# Altium integrated library NSC Analog.IntLib: 134 symbols (part 1 of 4)
Pins are listed as number, name and electrical type; pins without a type are passive.

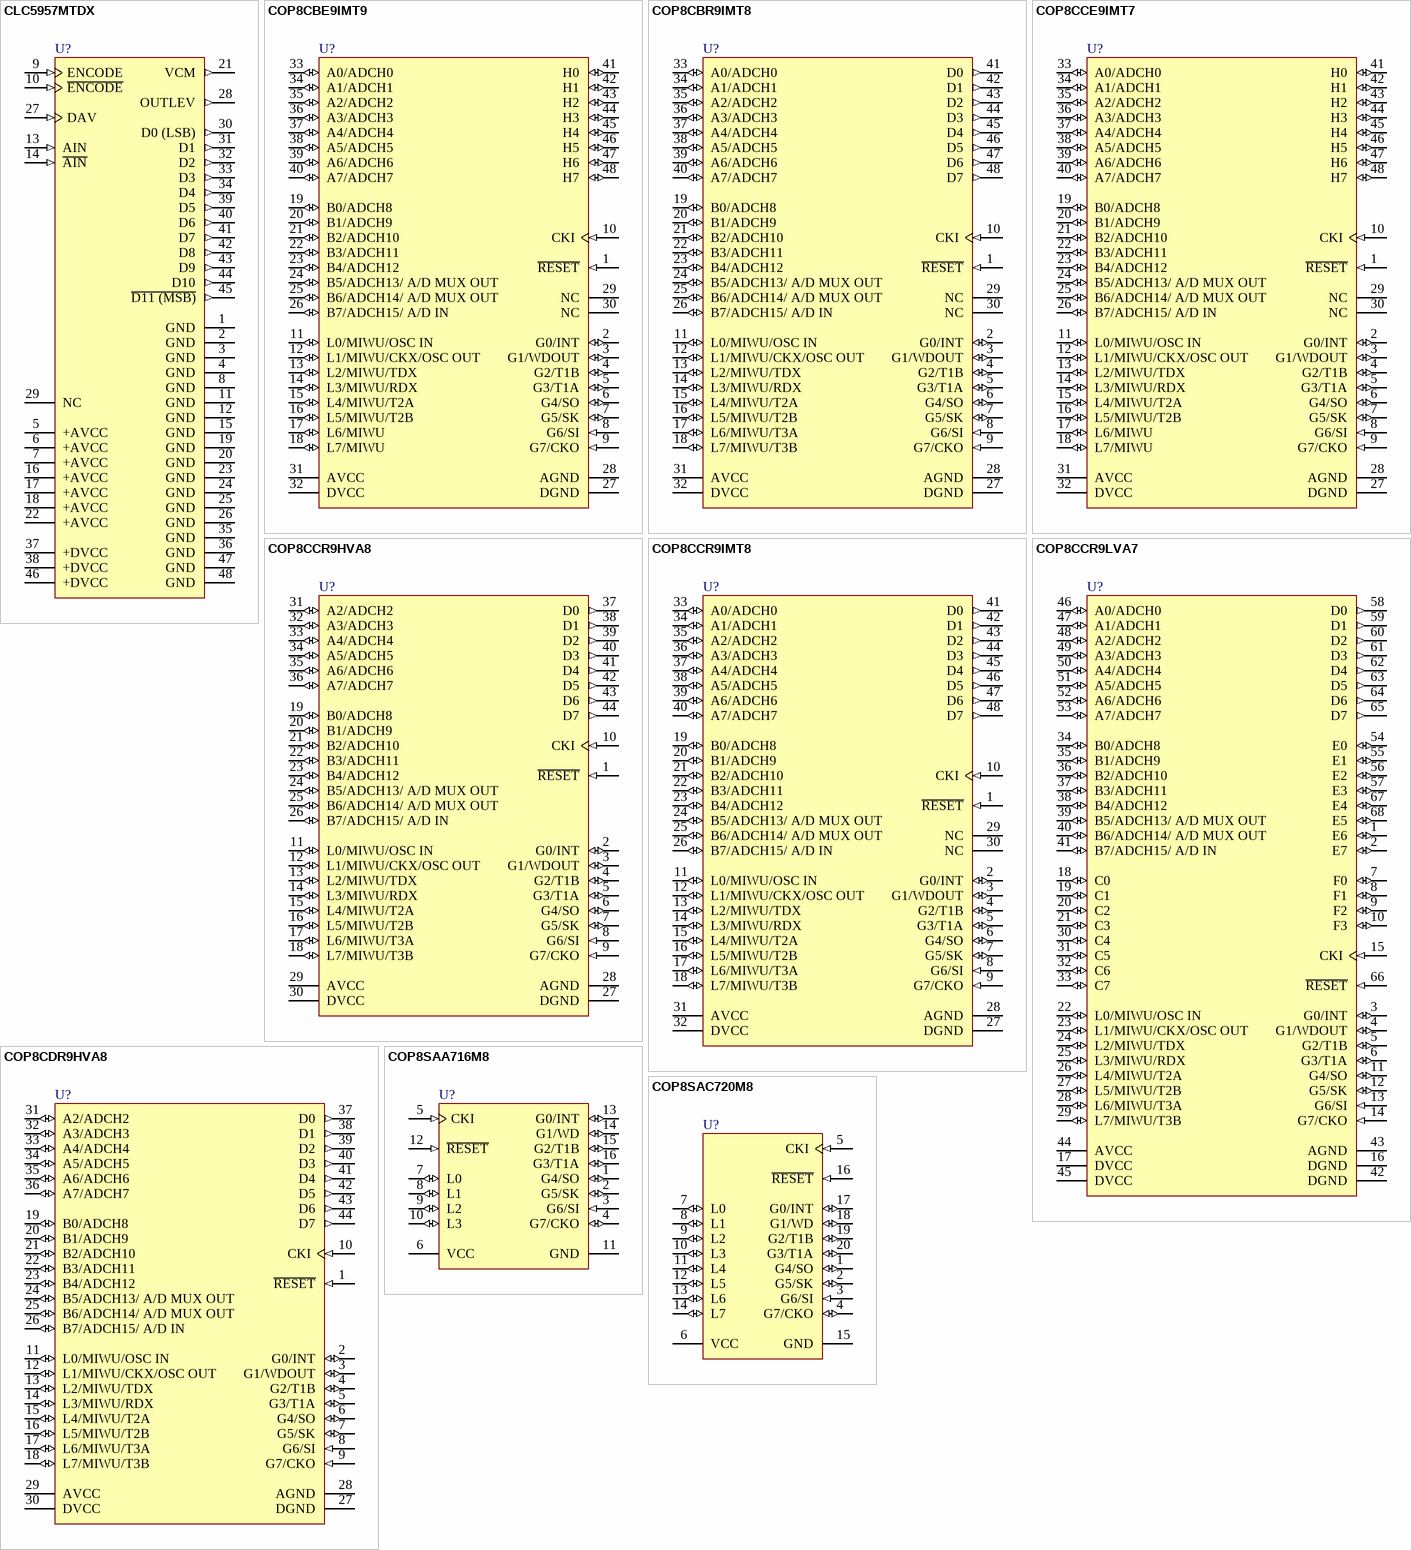
[diagram p0: symbols CLC5957MTDX to COP8SAC720M8]

## CLC5957MTDX
designator U?
12-Bit, 70 MSPS Broadband Monolithic A/D Converter; PartNumber: CLC5957MTDX; Manufacturer: National Semiconductor; CompType: Analog IC; PackageTopMarking: NSUZXYTT*CLC5957MTD; Published: 4-Dec-2008; DatasheetVersion: Apr-2002; PackageVersion: revE, Apr-2003; PackageReference: MTD48; Publisher: Altium Limited; PackageDescription: Molded TSSOP, Jedec, 12.5 x 6.1 x 0.9mm Body, 48 Lead, 0.50mm Pitch; PinCount: 48; DigiKeyPartNumber: CLC5957MTDX-ND; Code_JEDEC: MO-153-ED; ComponentLink1Description: CLC5957 Datasheet; ComponentLink1URL: http://www.national.com/ds.cgi/CL/CLC5957.pdf; ComponentLink2Description: CLC5957 Web Page; ComponentLink2URL: http://www.national.com/pf/CL/CLC5957.html; ComponentLink3Description: MTD48 package page; ComponentLink3URL: http://www.national.com/packaging/folders/mtd48.html
footprint MTD48_N (TSSOP, 48-Leads, Body 12.5x6.1mm, Pitch 0.5mm, IPC Medium Density)
footprint MTD48_L (TSSOP, 48-Leads, Body 12.5x6.1mm, Pitch 0.5mm, IPC High Density)
footprint MTD48_M (TSSOP, 48-Leads, Body 12.5x6.1mm, Pitch 0.5mm, IPC Low Density)
pins: 1 GND (power), 2 GND (power), 3 GND (power), 4 GND (power), 5 +AVCC (power), 6 +AVCC (power), 7 +AVCC (power), 8 GND (power), 9 ENCODE (in), 10 ~{ENCODE} (in), 11 GND (power), 12 GND (power), 13 AIN (in), 14 ~{AIN} (in), 15 GND (power), 16 +AVCC (power), 17 +AVCC (power), 18 +AVCC (power), 19 GND (power), 20 GND (power), 21 VCM (out), 22 +AVCC (power), 23 GND (power), 24 GND (power), 25 GND (power), 26 GND (power), 27 DAV (in), 28 OUTLEV (out), 29 NC, 30 D0 (LSB) (out), 31 D1 (out), 32 D2 (out), 33 D3 (out), 34 D4 (out), 35 GND (power), 36 GND (power), 37 +DVCC (power), 38 +DVCC (power), 39 D5 (out), 40 D6 (out), 41 D7 (out), 42 D8 (out), 43 D9 (out), 44 D10 (out), 45 ~{D11 (MSB)} (out), 46 +DVCC (power), 47 GND (power), 48 GND (power)

## COP8CBE9IMT9
designator U?
8-Bit CMOS Flash Microcontroller with 8k Memory, Virtual EEPROM, 10-Bit A/D and Brownout Reset; PartNumber: COP8CBE9IMT9; Manufacturer: National Semiconductor; CompType: Analog IC; PackageTopMarking: NS2ZXYTT*COP8CBE9IMT9; Published: 4-Dec-2008; DatasheetVersion: Jun-2004; PackageVersion: revE, Apr-2003; PackageReference: MTD48; Publisher: Altium Limited; PackageDescription: Molded TSSOP, Jedec, 12.5 x 6.1 x 0.9mm Body, 48 Lead, 0.50mm Pitch; PinCount: 48; DigiKeyPartNumber: COP8CBE9IMT9-ND; Code_JEDEC: MO-153-ED; ComponentLink1Description: COP8CBE9 Datasheet; ComponentLink1URL: http://www.national.com/ds.cgi/CO/COP8CBE9.pdf; ComponentLink2Description: COP8CBE9 Web Page; ComponentLink2URL: http://www.national.com/pf/CO/COP8CBE9.html; ComponentLink3Description: MTD48 package page; ComponentLink3URL: http://www.national.com/packaging/folders/mtd48.html
footprint MTD48_N (TSSOP, 48-Leads, Body 12.5x6.1mm, Pitch 0.5mm, IPC Medium Density)
footprint MTD48_L (TSSOP, 48-Leads, Body 12.5x6.1mm, Pitch 0.5mm, IPC High Density)
footprint MTD48_M (TSSOP, 48-Leads, Body 12.5x6.1mm, Pitch 0.5mm, IPC Low Density)
pins: 1 ~{RESET} (in), 2 G0/INT (io), 3 G1/WDOUT (io), 4 G2/T1B (io), 5 G3/T1A (io), 6 G4/SO (io), 7 G5/SK (io), 8 G6/SI (in), 9 G7/CKO (in), 10 CKI (in), 11 L0/MIWU/OSC IN (io), 12 L1/MIWU/CKX/OSC OUT (io), 13 L2/MIWU/TDX (io), 14 L3/MIWU/RDX (io), 15 L4/MIWU/T2A (io), 16 L5/MIWU/T2B (io), 17 L6/MIWU (io), 18 L7/MIWU (io), 19 B0/ADCH8 (io), 20 B1/ADCH9 (io), 21 B2/ADCH10 (io), 22 B3/ADCH11 (io), 23 B4/ADCH12 (io), 24 B5/ADCH13/ A/D MUX OUT (io), 25 B6/ADCH14/ A/D MUX OUT (io), 26 B7/ADCH15/ A/D IN (io), 27 DGND (power), 28 AGND (power), 29 NC, 30 NC, 31 AVCC (power), 32 DVCC (power), 33 A0/ADCH0 (io), 34 A1/ADCH1 (io), 35 A2/ADCH2 (io), 36 A3/ADCH3 (io), 37 A4/ADCH4 (io), 38 A5/ADCH5 (io), 39 A6/ADCH6 (io), 40 A7/ADCH7 (io), 41 H0 (io), 42 H1 (io), 43 H2 (io), 44 H3 (io), 45 H4 (io), 46 H5 (io), 47 H6 (io), 48 H7 (io)

## COP8CBR9IMT8
designator U?
8-Bit CMOS Flash Microcontroller with 32k Memory, Virtual EEPROM, 10-Bit A/D and Brownout; PartNumber: COP8CBR9IMT8; Manufacturer: National Semiconductor; CompType: Analog IC; PackageTopMarking: NS2ZXYTT*COP8CBR9IMT8; Published: 4-Dec-2008; DatasheetVersion: Aug-2003; PackageVersion: revE, Apr-2003; PackageReference: MTD48; Publisher: Altium Limited; PackageDescription: Molded TSSOP, Jedec, 12.5 x 6.1 x 0.9mm Body, 48 Lead, 0.50mm Pitch; PinCount: 48; DigiKeyPartNumber: COP8CBR9IMT8-ND; Code_JEDEC: MO-153-ED; ComponentLink1Description: COP8CBR9 Datasheet; ComponentLink1URL: http://www.national.com/ds.cgi/CO/COP8CBR9.pdf; ComponentLink2Description: COP8CBR9 Web Page; ComponentLink2URL: http://www.national.com/pf/CO/COP8CBR9.html; ComponentLink3Description: MTD48 package page; ComponentLink3URL: http://www.national.com/packaging/folders/mtd48.html
footprint MTD48_N (TSSOP, 48-Leads, Body 12.5x6.1mm, Pitch 0.5mm, IPC Medium Density)
footprint MTD48_L (TSSOP, 48-Leads, Body 12.5x6.1mm, Pitch 0.5mm, IPC High Density)
footprint MTD48_M (TSSOP, 48-Leads, Body 12.5x6.1mm, Pitch 0.5mm, IPC Low Density)
pins: 1 ~{RESET} (in), 2 G0/INT (io), 3 G1/WDOUT (io), 4 G2/T1B (io), 5 G3/T1A (io), 6 G4/SO (io), 7 G5/SK (io), 8 G6/SI (in), 9 G7/CKO (in), 10 CKI (in), 11 L0/MIWU/OSC IN (io), 12 L1/MIWU/CKX/OSC OUT (io), 13 L2/MIWU/TDX (io), 14 L3/MIWU/RDX (io), 15 L4/MIWU/T2A (io), 16 L5/MIWU/T2B (io), 17 L6/MIWU/T3A (io), 18 L7/MIWU/T3B (io), 19 B0/ADCH8 (io), 20 B1/ADCH9 (io), 21 B2/ADCH10 (io), 22 B3/ADCH11 (io), 23 B4/ADCH12 (io), 24 B5/ADCH13/ A/D MUX OUT (io), 25 B6/ADCH14/ A/D MUX OUT (io), 26 B7/ADCH15/ A/D IN (io), 27 DGND (power), 28 AGND (power), 29 NC, 30 NC, 31 AVCC (power), 32 DVCC (power), 33 A0/ADCH0 (io), 34 A1/ADCH1 (io), 35 A2/ADCH2 (io), 36 A3/ADCH3 (io), 37 A4/ADCH4 (io), 38 A5/ADCH5 (io), 39 A6/ADCH6 (io), 40 A7/ADCH7 (io), 41 D0 (out), 42 D1 (out), 43 D2 (out), 44 D3 (out), 45 D4 (out), 46 D5 (out), 47 D6 (out), 48 D7 (out)

## COP8CCE9IMT7
designator U?
8-Bit CMOS Flash Microcontroller with 8k Memory, Virtual EEPROM, 10-Bit A/D and Brownout Reset; PartNumber: COP8CCE9IMT7; Manufacturer: National Semiconductor; CompType: Analog IC; PackageTopMarking: NS2ZXYTT*COP8CCE9IMT7; Published: 4-Dec-2008; DatasheetVersion: Jun-2004; PackageVersion: revE, Apr-2003; PackageReference: MTD48; Publisher: Altium Limited; PackageDescription: Molded TSSOP, Jedec, 12.5 x 6.1 x 0.9mm Body, 48 Lead, 0.50mm Pitch; PinCount: 48; DigiKeyPartNumber: COP8CCE9IMT7-ND; Code_JEDEC: MO-153-ED; ComponentLink1Description: COP8CCE9 Datasheet; ComponentLink1URL: http://www.national.com/ds.cgi/CO/COP8CCE9.pdf; ComponentLink2Description: COP8CCE9 Web Page; ComponentLink2URL: http://www.national.com/pf/CO/COP8CCE9.html; ComponentLink3Description: MTD48 package page; ComponentLink3URL: http://www.national.com/packaging/folders/mtd48.html
footprint MTD48_N (TSSOP, 48-Leads, Body 12.5x6.1mm, Pitch 0.5mm, IPC Medium Density)
footprint MTD48_L (TSSOP, 48-Leads, Body 12.5x6.1mm, Pitch 0.5mm, IPC High Density)
footprint MTD48_M (TSSOP, 48-Leads, Body 12.5x6.1mm, Pitch 0.5mm, IPC Low Density)
pins: 1 ~{RESET} (in), 2 G0/INT (io), 3 G1/WDOUT (io), 4 G2/T1B (io), 5 G3/T1A (io), 6 G4/SO (io), 7 G5/SK (io), 8 G6/SI (in), 9 G7/CKO (in), 10 CKI (in), 11 L0/MIWU/OSC IN (io), 12 L1/MIWU/CKX/OSC OUT (io), 13 L2/MIWU/TDX (io), 14 L3/MIWU/RDX (io), 15 L4/MIWU/T2A (io), 16 L5/MIWU/T2B (io), 17 L6/MIWU (io), 18 L7/MIWU (io), 19 B0/ADCH8 (io), 20 B1/ADCH9 (io), 21 B2/ADCH10 (io), 22 B3/ADCH11 (io), 23 B4/ADCH12 (io), 24 B5/ADCH13/ A/D MUX OUT (io), 25 B6/ADCH14/ A/D MUX OUT (io), 26 B7/ADCH15/ A/D IN (io), 27 DGND (power), 28 AGND (power), 29 NC, 30 NC, 31 AVCC (power), 32 DVCC (power), 33 A0/ADCH0 (io), 34 A1/ADCH1 (io), 35 A2/ADCH2 (io), 36 A3/ADCH3 (io), 37 A4/ADCH4 (io), 38 A5/ADCH5 (io), 39 A6/ADCH6 (io), 40 A7/ADCH7 (io), 41 H0 (io), 42 H1 (io), 43 H2 (io), 44 H3 (io), 45 H4 (io), 46 H5 (io), 47 H6 (io), 48 H7 (io)

## COP8CCR9HVA8
designator U?
8-Bit CMOS Flash Microcontroller with 32k Memory, Virtual EEPROM, 10-Bit A/D and Brownout; PartNumber: COP8CCR9HVA8; Manufacturer: National Semiconductor; CompType: Analog IC; PackageTopMarking: NS2ZXYYTTE#*COP8CCR9HVA8; Published: 4-Dec-2008; DatasheetVersion: Aug-2003; PackageVersion: revK, Dec-1993; PackageReference: V44A; Publisher: Altium Limited; PackageDescription: Plastic Chip Carrier, Sq, .050in Pitch, 44 Lead; PinCount: 44; DigiKeyPartNumber: COP8CCR9HVA8-ND; Code_IPC: PLCC-44; ComponentLink1Description: COP8CCR9 Datasheet; ComponentLink1URL: http://www.national.com/ds.cgi/CO/COP8CCR9.pdf; ComponentLink2Description: COP8CCR9 Web Page; ComponentLink2URL: http://www.national.com/pf/CO/COP8CCR9.html; ComponentLink3Description: V44A package page; ComponentLink3URL: http://www.national.com/packaging/folders/v44a.html
footprint V44A_N (Leaded Chip Carrier, 44-Leads, Body 16.6x16.6mm, Pitch 1.27mm, IPC Medium Density)
footprint V44A_L (Leaded Chip Carrier, 44-Leads, Body 16.6x16.6mm, Pitch 1.27mm, IPC High Density)
footprint V44A_M (Leaded Chip Carrier, 44-Leads, Body 16.6x16.6mm, Pitch 1.27mm, IPC Low Density)
pins: 1 ~{RESET} (in), 2 G0/INT (io), 3 G1/WDOUT (io), 4 G2/T1B (io), 5 G3/T1A (io), 6 G4/SO (io), 7 G5/SK (io), 8 G6/SI (in), 9 G7/CKO (in), 10 CKI (in), 11 L0/MIWU/OSC IN (io), 12 L1/MIWU/CKX/OSC OUT (io), 13 L2/MIWU/TDX (io), 14 L3/MIWU/RDX (io), 15 L4/MIWU/T2A (io), 16 L5/MIWU/T2B (io), 17 L6/MIWU/T3A (io), 18 L7/MIWU/T3B (io), 19 B0/ADCH8 (io), 20 B1/ADCH9 (io), 21 B2/ADCH10 (io), 22 B3/ADCH11 (io), 23 B4/ADCH12 (io), 24 B5/ADCH13/ A/D MUX OUT (io), 25 B6/ADCH14/ A/D MUX OUT (io), 26 B7/ADCH15/ A/D IN (io), 27 DGND (power), 28 AGND (power), 29 AVCC (power), 30 DVCC (power), 31 A2/ADCH2 (io), 32 A3/ADCH3 (io), 33 A4/ADCH4 (io), 34 A5/ADCH5 (io), 35 A6/ADCH6 (io), 36 A7/ADCH7 (io), 37 D0 (out), 38 D1 (out), 39 D2 (out), 40 D3 (out), 41 D4 (out), 42 D5 (out), 43 D6 (out), 44 D7 (out)

## COP8CCR9IMT8
designator U?
8-Bit CMOS Flash Microcontroller with 32k Memory, Virtual EEPROM, 10-Bit A/D and Brownout; PartNumber: COP8CCR9IMT8; Manufacturer: National Semiconductor; CompType: Analog IC; PackageTopMarking: NS2ZXYTT*COP8CCR9IMT8; Published: 4-Dec-2008; DatasheetVersion: Aug-2003; PackageVersion: revE, Apr-2003; PackageReference: MTD48; Publisher: Altium Limited; PackageDescription: Molded TSSOP, Jedec, 12.5 x 6.1 x 0.9mm Body, 48 Lead, 0.50mm Pitch; PinCount: 48; DigiKeyPartNumber: COP8CCR9IMT8-ND; Code_JEDEC: MO-153-ED; ComponentLink1Description: COP8CCR9 Datasheet; ComponentLink1URL: http://www.national.com/ds.cgi/CO/COP8CCR9.pdf; ComponentLink2Description: COP8CCR9 Web Page; ComponentLink2URL: http://www.national.com/pf/CO/COP8CCR9.html; ComponentLink3Description: MTD48 package page; ComponentLink3URL: http://www.national.com/packaging/folders/mtd48.html
footprint MTD48_N (TSSOP, 48-Leads, Body 12.5x6.1mm, Pitch 0.5mm, IPC Medium Density)
footprint MTD48_L (TSSOP, 48-Leads, Body 12.5x6.1mm, Pitch 0.5mm, IPC High Density)
footprint MTD48_M (TSSOP, 48-Leads, Body 12.5x6.1mm, Pitch 0.5mm, IPC Low Density)
pins: 1 ~{RESET} (in), 2 G0/INT (io), 3 G1/WDOUT (io), 4 G2/T1B (io), 5 G3/T1A (io), 6 G4/SO (io), 7 G5/SK (io), 8 G6/SI (in), 9 G7/CKO (in), 10 CKI (in), 11 L0/MIWU/OSC IN (io), 12 L1/MIWU/CKX/OSC OUT (io), 13 L2/MIWU/TDX (io), 14 L3/MIWU/RDX (io), 15 L4/MIWU/T2A (io), 16 L5/MIWU/T2B (io), 17 L6/MIWU/T3A (io), 18 L7/MIWU/T3B (io), 19 B0/ADCH8 (io), 20 B1/ADCH9 (io), 21 B2/ADCH10 (io), 22 B3/ADCH11 (io), 23 B4/ADCH12 (io), 24 B5/ADCH13/ A/D MUX OUT (io), 25 B6/ADCH14/ A/D MUX OUT (io), 26 B7/ADCH15/ A/D IN (io), 27 DGND (power), 28 AGND (power), 29 NC, 30 NC, 31 AVCC (power), 32 DVCC (power), 33 A0/ADCH0 (io), 34 A1/ADCH1 (io), 35 A2/ADCH2 (io), 36 A3/ADCH3 (io), 37 A4/ADCH4 (io), 38 A5/ADCH5 (io), 39 A6/ADCH6 (io), 40 A7/ADCH7 (io), 41 D0 (out), 42 D1 (out), 43 D2 (out), 44 D3 (out), 45 D4 (out), 46 D5 (out), 47 D6 (out), 48 D7 (out)

## COP8CCR9LVA7
designator U?
8-Bit CMOS Flash Microcontroller with 32k Memory, Virtual EEPROM, 10-Bit A/D and Brownout; PartNumber: COP8CCR9LVA7; Manufacturer: National Semiconductor; CompType: Analog IC; PackageTopMarking: NS2ZXYYTTE#*COP8CCR9LVA7; Published: 4-Dec-2008; DatasheetVersion: Aug-2003; PackageVersion: revK, May-2007; PackageReference: V68A; Publisher: Altium Limited; PackageDescription: Plastic Chip Carrier, J-Bend, .954 x. 954 x .172in, .050in Pitch, 68 Lead; PinCount: 68; DigiKeyPartNumber: COP8CCR9LVA7-ND; Code_JEDEC: MS-018-AE; Code_IPC: PLCC-68; ComponentLink1Description: COP8CCR9 Datasheet; ComponentLink1URL: http://www.national.com/ds.cgi/CO/COP8CCR9.pdf; ComponentLink2Description: COP8CCR9 Web Page; ComponentLink2URL: http://www.national.com/pf/CO/COP8CCR9.html; ComponentLink3Description: V68A package page; ComponentLink3URL: http://www.national.com/packaging/folders/v68a.html
footprint V68A_N (Leaded Chip Carrier, 68-Leads, Body 24x24mm, Pitch 1.27mm, IPC Medium Density)
footprint V68A_L (Leaded Chip Carrier, 68-Leads, Body 24x24mm, Pitch 1.27mm, IPC High Density)
footprint V68A_M (Leaded Chip Carrier, 68-Leads, Body 24x24mm, Pitch 1.27mm, IPC Low Density)
pins: 1 E6 (io), 2 E7 (io), 3 G0/INT (io), 4 G1/WDOUT (io), 5 G2/T1B (io), 6 G3/T1A (io), 7 F0 (io), 8 F1 (io), 9 F2 (io), 10 F3 (io), 11 G4/SO (io), 12 G5/SK (io), 13 G6/SI (in), 14 G7/CKO (in), 15 CKI (in), 16 DGND (power), 17 DVCC (power), 18 C0 (io), 19 C1 (io), 20 C2 (io), 21 C3 (io), 22 L0/MIWU/OSC IN (io), 23 L1/MIWU/CKX/OSC OUT (io), 24 L2/MIWU/TDX (io), 25 L3/MIWU/RDX (io), 26 L4/MIWU/T2A (io), 27 L5/MIWU/T2B (io), 28 L6/MIWU/T3A (io), 29 L7/MIWU/T3B (io), 30 C4 (io), 31 C5 (io), 32 C6 (io), 33 C7 (io), 34 B0/ADCH8 (io), 35 B1/ADCH9 (io), 36 B2/ADCH10 (io), 37 B3/ADCH11 (io), 38 B4/ADCH12 (io), 39 B5/ADCH13/ A/D MUX OUT (io), 40 B6/ADCH14/ A/D MUX OUT (io), 41 B7/ADCH15/ A/D IN (io), 42 DGND (power), 43 AGND (power), 44 AVCC (power), 45 DVCC (power), 46 A0/ADCH0 (io), 47 A1/ADCH1 (io), 48 A2/ADCH2 (io), 49 A3/ADCH3 (io), 50 A4/ADCH4 (io), 51 A5/ADCH5 (io), 52 A6/ADCH6 (io), 53 A7/ADCH7 (io), 54 E0 (io), 55 E1 (io), 56 E2 (io), 57 E3 (io), 58 D0 (out), 59 D1 (out), 60 D2 (out), 61 D3 (out), 62 D4 (out), 63 D5 (out), 64 D6 (out), 65 D7 (out), 66 ~{RESET} (in), 67 E4 (io), 68 E5 (io)

## COP8CDR9HVA8
designator U?
8-Bit CMOS Flash Microcontroller with 32k Memory, Virtual EEPROM, 10-Bit A/D and Brownout; PartNumber: COP8CDR9HVA8; Manufacturer: National Semiconductor; CompType: Analog IC; PackageTopMarking: NS2ZXYYTTE#*COP8CDR9HVA8; Published: 4-Dec-2008; DatasheetVersion: Aug-2003; PackageVersion: revK, Dec-1993; PackageReference: V44A; Publisher: Altium Limited; PackageDescription: Plastic Chip Carrier, Sq, .050in Pitch, 44 Lead; PinCount: 44; DigiKeyPartNumber: COP8CDR9HVA8-ND; Code_IPC: PLCC-44; ComponentLink1Description: COP8CDR9 Datasheet; ComponentLink1URL: http://www.national.com/ds.cgi/CO/COP8CDR9.pdf; ComponentLink2Description: COP8CDR9 Web Page; ComponentLink2URL: http://www.national.com/pf/CO/COP8CDR9.html; ComponentLink3Description: V44A package page; ComponentLink3URL: http://www.national.com/packaging/folders/v44a.html
footprint V44A_N (Leaded Chip Carrier, 44-Leads, Body 16.6x16.6mm, Pitch 1.27mm, IPC Medium Density)
footprint V44A_L (Leaded Chip Carrier, 44-Leads, Body 16.6x16.6mm, Pitch 1.27mm, IPC High Density)
footprint V44A_M (Leaded Chip Carrier, 44-Leads, Body 16.6x16.6mm, Pitch 1.27mm, IPC Low Density)
pins: 1 ~{RESET} (in), 2 G0/INT (io), 3 G1/WDOUT (io), 4 G2/T1B (io), 5 G3/T1A (io), 6 G4/SO (io), 7 G5/SK (io), 8 G6/SI (in), 9 G7/CKO (in), 10 CKI (in), 11 L0/MIWU/OSC IN (io), 12 L1/MIWU/CKX/OSC OUT (io), 13 L2/MIWU/TDX (io), 14 L3/MIWU/RDX (io), 15 L4/MIWU/T2A (io), 16 L5/MIWU/T2B (io), 17 L6/MIWU/T3A (io), 18 L7/MIWU/T3B (io), 19 B0/ADCH8 (io), 20 B1/ADCH9 (io), 21 B2/ADCH10 (io), 22 B3/ADCH11 (io), 23 B4/ADCH12 (io), 24 B5/ADCH13/ A/D MUX OUT (io), 25 B6/ADCH14/ A/D MUX OUT (io), 26 B7/ADCH15/ A/D IN (io), 27 DGND (power), 28 AGND (power), 29 AVCC (power), 30 DVCC (power), 31 A2/ADCH2 (io), 32 A3/ADCH3 (io), 33 A4/ADCH4 (io), 34 A5/ADCH5 (io), 35 A6/ADCH6 (io), 36 A7/ADCH7 (io), 37 D0 (out), 38 D1 (out), 39 D2 (out), 40 D3 (out), 41 D4 (out), 42 D5 (out), 43 D6 (out), 44 D7 (out)

## COP8SAA716M8
designator U?
8-Bit CMOS ROM Based & One-Time Programmable (OTP) Microcontroller with 1 to 4k Memory, Power On Reset, & Very Small Packaging; PartNumber: COP8SAA716M8; Manufacturer: National Semiconductor; CompType: Analog IC; PackageTopMarking: NSUZXYTT*COP8SAA7*16M8; Published: 4-Dec-2008; DatasheetVersion: Nov-2000; PackageVersion: revF, Apr-1990; PackageReference: M16B; Publisher: Altium Limited; PackageDescription: Molded Package, S.O., .300in Wide, 16 Lead; PinCount: 16; DigiKeyPartNumber: COP8SAA716M8-ND; Code_JEDEC: MS-013-AA; Code_IPC: SOIC127P1030-16; ComponentLink1Description: COP8SAA7 Datasheet; ComponentLink1URL: http://www.national.com/ds.cgi/CO/COP8SAA7.pdf; ComponentLink2Description: COP8SAA7 Web Page; ComponentLink2URL: http://www.national.com/pf/CO/COP8SAA7.html; ComponentLink3Description: M16B package page; ComponentLink3URL: http://www.national.com/packaging/folders/m16b.html
footprint M16B_N (SOIC, 16-Leads, Body 10.3x7.5mm, Pitch 1.27mm, IPC Medium Density)
footprint M16B_L (SOIC, 16-Leads, Body 10.3x7.5mm, Pitch 1.27mm, IPC High Density)
footprint M16B_M (SOIC, 16-Leads, Body 10.3x7.5mm, Pitch 1.27mm, IPC Low Density)
pins: 1 G4/SO (io), 2 G5/SK (io), 3 G6/SI (in), 4 G7/CKO (io), 5 CKI (in), 6 VCC (power), 7 L0 (io), 8 L1 (io), 9 L2 (io), 10 L3 (io), 11 GND (power), 12 ~{RESET} (in), 13 G0/INT (io), 14 G1/WD (io), 15 G2/T1B (io), 16 G3/T1A (io)

## COP8SAC720M8
designator U?
8-Bit CMOS ROM Based & One-Time Programmable (OTP) Microcontroller with 1 to 4k Memory, Power On Reset, & Very Small Packaging; PartNumber: COP8SAC720M8; Manufacturer: National Semiconductor; CompType: Analog IC; PackageTopMarking: NSUZXYTT*COP8SAC720M8; Published: 4-Dec-2008; DatasheetVersion: Nov-2000; PackageVersion: revG, Jan-1996; PackageReference: M20B; Publisher: Altium Limited; PackageDescription: Molded Package, S0, .300in Wide, 20 Lead; PinCount: 20; DigiKeyPartNumber: COP8SAC720M8-ND; Code_JEDEC: MS-013-AC; Code_IPC: SOIC127P1030-20; ComponentLink1Description: COP8SAC7 Datasheet; ComponentLink1URL: http://www.national.com/ds.cgi/CO/COP8SAC7.pdf; ComponentLink2Description: COP8SAC7 Web Page; ComponentLink2URL: http://www.national.com/pf/CO/COP8SAC7.html; ComponentLink3Description: M20B package page; ComponentLink3URL: http://www.national.com/packaging/folders/m20b.html
footprint M20B_N (SOIC, 20-Leads, Body 12.8x7.5mm, Pitch 1.27mm, IPC Medium Density)
footprint M20B_L (SOIC, 20-Leads, Body 12.8x7.5mm, Pitch 1.27mm, IPC High Density)
footprint M20B_M (SOIC, 20-Leads, Body 12.8x7.5mm, Pitch 1.27mm, IPC Low Density)
pins: 1 G4/SO (io), 2 G5/SK (io), 3 G6/SI (in), 4 G7/CKO (io), 5 CKI (in), 6 VCC (power), 7 L0 (io), 8 L1 (io), 9 L2 (io), 10 L3 (io), 11 L4 (io), 12 L5 (io), 13 L6 (io), 14 L7 (io), 15 GND (power), 16 ~{RESET} (in), 17 G0/INT (io), 18 G1/WD (io), 19 G2/T1B (io), 20 G3/T1A (io)

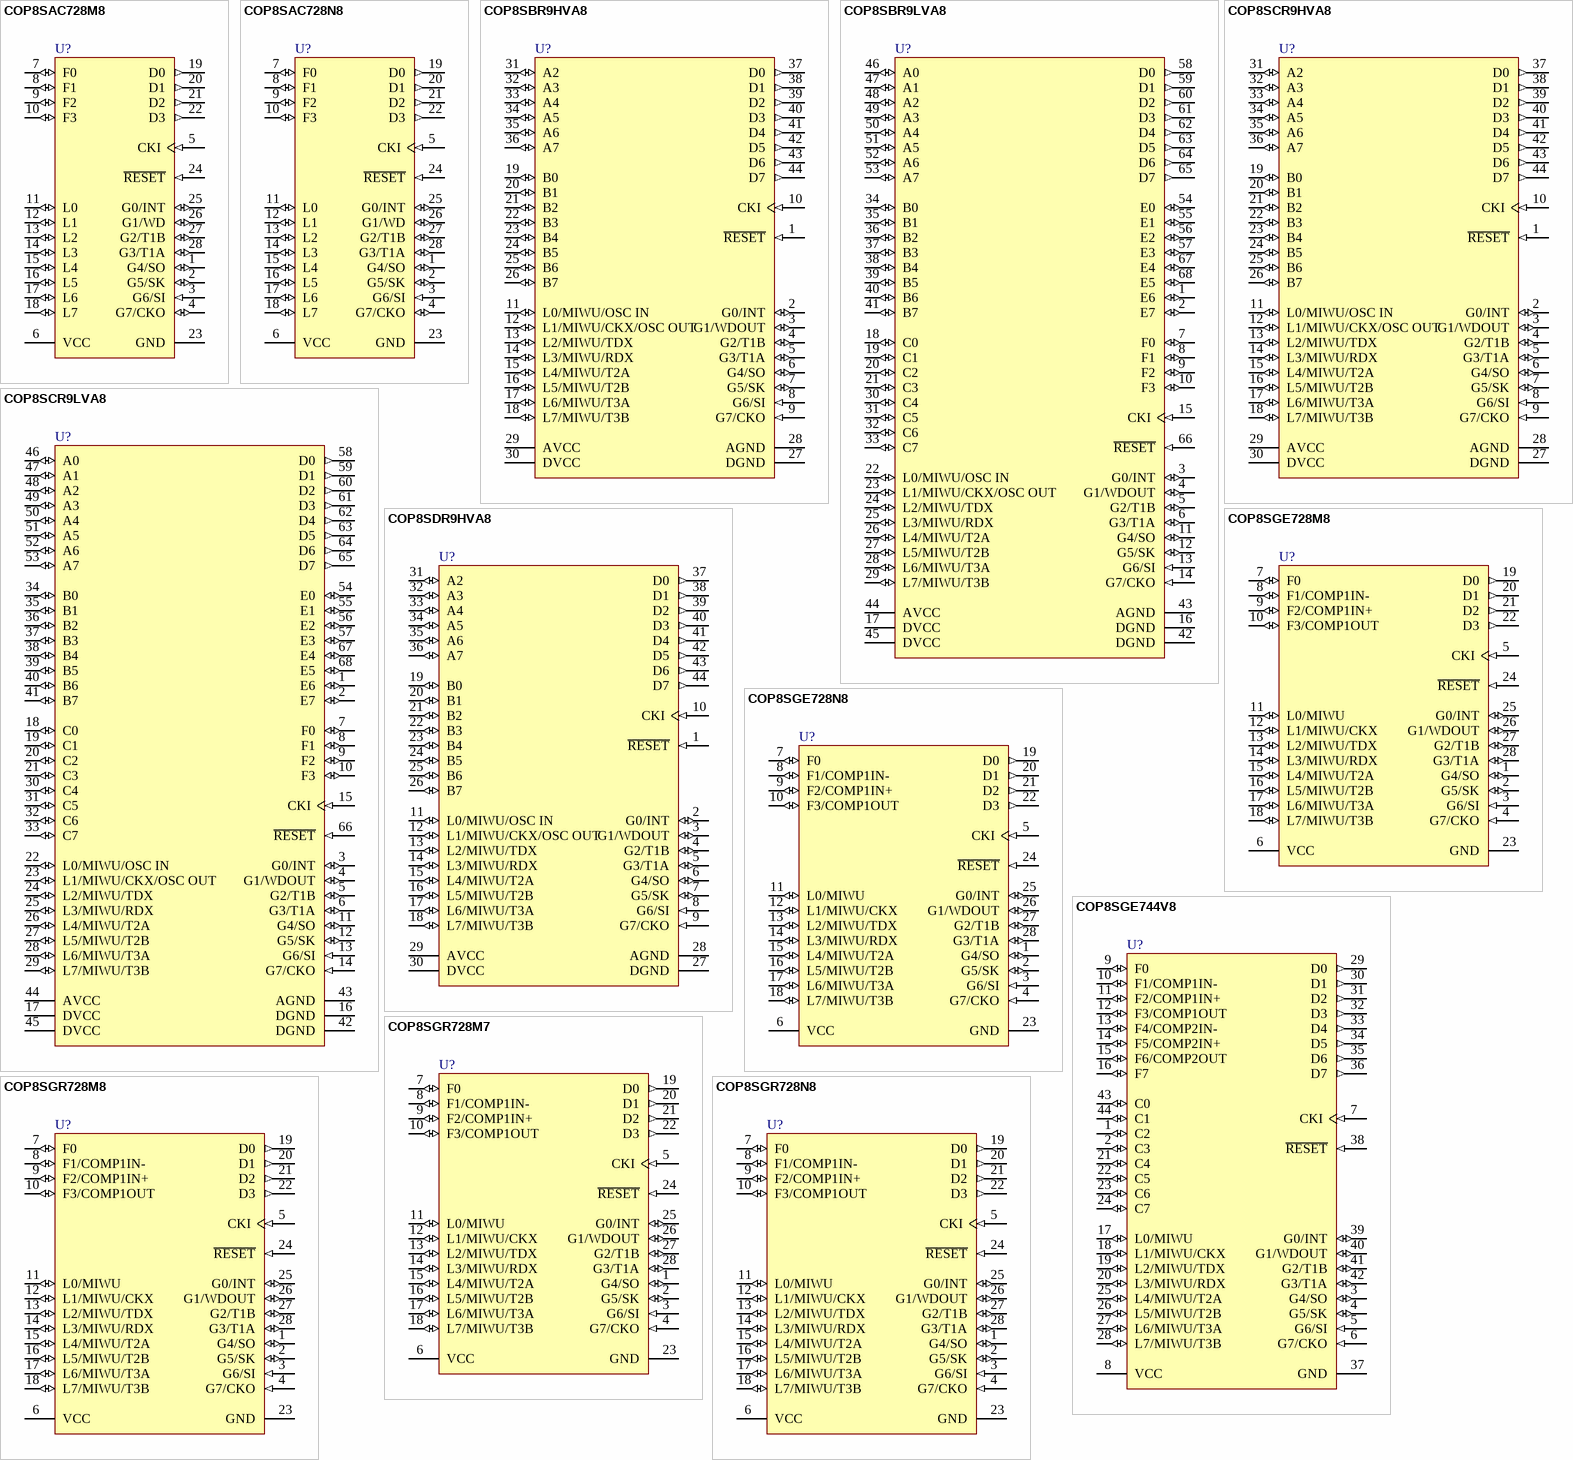
[diagram p1: symbols COP8SAC728M8 to COP8SGR728N8]

## COP8SAC728M8
designator U?
8-Bit CMOS ROM Based & One-Time Programmable (OTP) Microcontroller with 1 to 4k Memory, Power On Reset, & Very Small Packaging; PartNumber: COP8SAC728M8; Manufacturer: National Semiconductor; CompType: Analog IC; PackageTopMarking: NSUZXYTT*COP8SAC728M8; Published: 4-Dec-2008; DatasheetVersion: Nov-2000; PackageVersion: revB, Nov-1997; PackageReference: M28B; Publisher: Altium Limited; PackageDescription: Molded Package, S.O., .300in Wide, 28 Lead; PinCount: 28; DigiKeyPartNumber: COP8SAC728M8-ND; ComponentLink1Description: COP8SAC7 Datasheet; ComponentLink1URL: http://www.national.com/ds.cgi/CO/COP8SAC7.pdf; ComponentLink2Description: COP8SAC7 Web Page; ComponentLink2URL: http://www.national.com/pf/CO/COP8SAC7.html; ComponentLink3Description: M28B package page; ComponentLink3URL: http://www.national.com/packaging/folders/m28b.html
footprint M28B_N (SOIC, 28-Leads, Body 17.9x7.5mm, Pitch 1.27mm, IPC Medium Density)
footprint M28B_L (SOIC, 28-Leads, Body 17.9x7.5mm, Pitch 1.27mm, IPC High Density)
footprint M28B_M (SOIC, 28-Leads, Body 17.9x7.5mm, Pitch 1.27mm, IPC Low Density)
pins: 1 G4/SO (io), 2 G5/SK (io), 3 G6/SI (in), 4 G7/CKO (io), 5 CKI (in), 6 VCC (power), 7 F0 (io), 8 F1 (io), 9 F2 (io), 10 F3 (io), 11 L0 (io), 12 L1 (io), 13 L2 (io), 14 L3 (io), 15 L4 (io), 16 L5 (io), 17 L6 (io), 18 L7 (io), 19 D0 (out), 20 D1 (out), 21 D2 (out), 22 D3 (out), 23 GND (power), 24 ~{RESET} (in), 25 G0/INT (io), 26 G1/WD (io), 27 G2/T1B (io), 28 G3/T1A (io)

## COP8SAC728N8
designator U?
8-Bit CMOS ROM Based & One-Time Programmable (OTP) Microcontroller with 1 to 4k Memory, Power On Reset, & Very Small Packaging; PartNumber: COP8SAC728N8; Manufacturer: National Semiconductor; CompType: Analog IC; PackageTopMarking: NSUZXYYTTE#*COP8SAC728N8; Published: 4-Dec-2008; DatasheetVersion: Nov-2000; PackageVersion: revB, Aug-1993; PackageReference: NA28E; Publisher: Altium Limited; PackageDescription: Molded Dip, 28 Lead, .600 Centers, Substractor Package; PinCount: 28; DigiKeyPartNumber: COP8SAC728N8-ND; ComponentLink1Description: COP8SAC7 Datasheet; ComponentLink1URL: http://www.national.com/ds.cgi/CO/COP8SAC7.pdf; ComponentLink2Description: COP8SAC7 Web Page; ComponentLink2URL: http://www.national.com/pf/CO/COP8SAC7.html; ComponentLink3Description: NA28E package page; ComponentLink3URL: http://www.national.com/packaging/folders/na28e.html
footprint NA28E (DIP, 28-Leads, Row Spacing 15.24mm, Pitch 2.54mm, Body 36.83x13.72mm)
pins: 1 G4/SO (io), 2 G5/SK (io), 3 G6/SI (in), 4 G7/CKO (io), 5 CKI (in), 6 VCC (power), 7 F0 (io), 8 F1 (io), 9 F2 (io), 10 F3 (io), 11 L0 (io), 12 L1 (io), 13 L2 (io), 14 L3 (io), 15 L4 (io), 16 L5 (io), 17 L6 (io), 18 L7 (io), 19 D0 (out), 20 D1 (out), 21 D2 (out), 22 D3 (out), 23 GND (power), 24 ~{RESET} (in), 25 G0/INT (io), 26 G1/WD (io), 27 G2/T1B (io), 28 G3/T1A (io)

## COP8SBR9HVA8
designator U?
8-Bit CMOS Flash Based Microcontroller with 32k Memory, Virtual EEPROM and Brownout; PartNumber: COP8SBR9HVA8; Manufacturer: National Semiconductor; CompType: Analog IC; PackageTopMarking: NS2ZXYTTE#*COP8SBR9HVA8; Published: 4-Dec-2008; DatasheetVersion: Aug-2003; PackageVersion: revK, Dec-1993; PackageReference: V44A; Publisher: Altium Limited; PackageDescription: Plastic Chip Carrier, Sq, .050in Pitch, 44 Lead; PinCount: 44; DigiKeyPartNumber: COP8SBR9HVA8-ND; Code_IPC: PLCC-44; ComponentLink1Description: COP8SBR9 Datasheet; ComponentLink1URL: http://www.national.com/ds.cgi/CO/COP8SBR9.pdf; ComponentLink2Description: COP8SBR9 Web Page; ComponentLink2URL: http://www.national.com/pf/CO/COP8SBR9.html; ComponentLink3Description: V44A package page; ComponentLink3URL: http://www.national.com/packaging/folders/v44a.html
footprint V44A_N (Leaded Chip Carrier, 44-Leads, Body 16.6x16.6mm, Pitch 1.27mm, IPC Medium Density)
footprint V44A_L (Leaded Chip Carrier, 44-Leads, Body 16.6x16.6mm, Pitch 1.27mm, IPC High Density)
footprint V44A_M (Leaded Chip Carrier, 44-Leads, Body 16.6x16.6mm, Pitch 1.27mm, IPC Low Density)
pins: 1 ~{RESET} (in), 2 G0/INT (io), 3 G1/WDOUT (io), 4 G2/T1B (io), 5 G3/T1A (io), 6 G4/SO (io), 7 G5/SK (io), 8 G6/SI (in), 9 G7/CKO (in), 10 CKI (in), 11 L0/MIWU/OSC IN (io), 12 L1/MIWU/CKX/OSC OUT (io), 13 L2/MIWU/TDX (io), 14 L3/MIWU/RDX (io), 15 L4/MIWU/T2A (io), 16 L5/MIWU/T2B (io), 17 L6/MIWU/T3A (io), 18 L7/MIWU/T3B (io), 19 B0 (io), 20 B1 (io), 21 B2 (io), 22 B3 (io), 23 B4 (io), 24 B5 (io), 25 B6 (io), 26 B7 (io), 27 DGND (power), 28 AGND (power), 29 AVCC (power), 30 DVCC (power), 31 A2 (io), 32 A3 (io), 33 A4 (io), 34 A5 (io), 35 A6 (io), 36 A7 (io), 37 D0 (out), 38 D1 (out), 39 D2 (out), 40 D3 (out), 41 D4 (out), 42 D5 (out), 43 D6 (out), 44 D7 (out)

## COP8SBR9LVA8
designator U?
8-Bit CMOS Flash Based Microcontroller with 32k Memory, Virtual EEPROM and Brownout; PartNumber: COP8SBR9LVA8; Manufacturer: National Semiconductor; CompType: Analog IC; PackageTopMarking: NS2ZXYTTE#*COP8SBR9LVA8; Published: 4-Dec-2008; DatasheetVersion: Aug-2003; PackageVersion: revK, May-2007; PackageReference: V68A; Publisher: Altium Limited; PackageDescription: Plastic Chip Carrier, J-Bend, .954 x. 954 x .172in, .050in Pitch, 68 Lead; PinCount: 68; DigiKeyPartNumber: COP8SBR9LVA8-ND; Code_JEDEC: MS-018-AE; Code_IPC: PLCC-68; ComponentLink1Description: COP8SBR9 Datasheet; ComponentLink1URL: http://www.national.com/ds.cgi/CO/COP8SBR9.pdf; ComponentLink2Description: COP8SBR9 Web Page; ComponentLink2URL: http://www.national.com/pf/CO/COP8SBR9.html; ComponentLink3Description: V68A package page; ComponentLink3URL: http://www.national.com/packaging/folders/v68a.html
footprint V68A_N (Leaded Chip Carrier, 68-Leads, Body 24x24mm, Pitch 1.27mm, IPC Medium Density)
footprint V68A_L (Leaded Chip Carrier, 68-Leads, Body 24x24mm, Pitch 1.27mm, IPC High Density)
footprint V68A_M (Leaded Chip Carrier, 68-Leads, Body 24x24mm, Pitch 1.27mm, IPC Low Density)
pins: 1 E6 (io), 2 E7 (io), 3 G0/INT (io), 4 G1/WDOUT (io), 5 G2/T1B (io), 6 G3/T1A (io), 7 F0 (io), 8 F1 (io), 9 F2 (io), 10 F3 (io), 11 G4/SO (io), 12 G5/SK (io), 13 G6/SI (in), 14 G7/CKO (in), 15 CKI (in), 16 DGND (power), 17 DVCC (power), 18 C0 (io), 19 C1 (io), 20 C2 (io), 21 C3 (io), 22 L0/MIWU/OSC IN (io), 23 L1/MIWU/CKX/OSC OUT (io), 24 L2/MIWU/TDX (io), 25 L3/MIWU/RDX (io), 26 L4/MIWU/T2A (io), 27 L5/MIWU/T2B (io), 28 L6/MIWU/T3A (io), 29 L7/MIWU/T3B (io), 30 C4 (io), 31 C5 (io), 32 C6 (io), 33 C7 (io), 34 B0 (io), 35 B1 (io), 36 B2 (io), 37 B3 (io), 38 B4 (io), 39 B5 (io), 40 B6 (io), 41 B7 (io), 42 DGND (power), 43 AGND (power), 44 AVCC (power), 45 DVCC (power), 46 A0 (io), 47 A1 (io), 48 A2 (io), 49 A3 (io), 50 A4 (io), 51 A5 (io), 52 A6 (io), 53 A7 (io), 54 E0 (io), 55 E1 (io), 56 E2 (io), 57 E3 (io), 58 D0 (out), 59 D1 (out), 60 D2 (out), 61 D3 (out), 62 D4 (out), 63 D5 (out), 64 D6 (out), 65 D7 (out), 66 ~{RESET} (in), 67 E4 (io), 68 E5 (io)

## COP8SCR9HVA8
designator U?
8-Bit CMOS Flash Based Microcontroller with 32k Memory, Virtual EEPROM and Brownout; PartNumber: COP8SCR9HVA8; Manufacturer: National Semiconductor; CompType: Analog IC; PackageTopMarking: NS2ZXYTTE#*COP8SCR9HVA8; Published: 4-Dec-2008; DatasheetVersion: Aug-2003; PackageVersion: revK, Dec-1993; PackageReference: V44A; Publisher: Altium Limited; PackageDescription: Plastic Chip Carrier, Sq, .050in Pitch, 44 Lead; PinCount: 44; DigiKeyPartNumber: COP8SCR9HVA8-ND; Code_IPC: PLCC-44; ComponentLink1Description: COP8SCR9 Datasheet; ComponentLink1URL: http://www.national.com/ds.cgi/CO/COP8SCR9.pdf; ComponentLink2Description: COP8SCR9 Web Page; ComponentLink2URL: http://www.national.com/pf/CO/COP8SCR9.html; ComponentLink3Description: V44A package page; ComponentLink3URL: http://www.national.com/packaging/folders/v44a.html
footprint V44A_N (Leaded Chip Carrier, 44-Leads, Body 16.6x16.6mm, Pitch 1.27mm, IPC Medium Density)
footprint V44A_L (Leaded Chip Carrier, 44-Leads, Body 16.6x16.6mm, Pitch 1.27mm, IPC High Density)
footprint V44A_M (Leaded Chip Carrier, 44-Leads, Body 16.6x16.6mm, Pitch 1.27mm, IPC Low Density)
pins: 1 ~{RESET} (in), 2 G0/INT (io), 3 G1/WDOUT (io), 4 G2/T1B (io), 5 G3/T1A (io), 6 G4/SO (io), 7 G5/SK (io), 8 G6/SI (in), 9 G7/CKO (in), 10 CKI (in), 11 L0/MIWU/OSC IN (io), 12 L1/MIWU/CKX/OSC OUT (io), 13 L2/MIWU/TDX (io), 14 L3/MIWU/RDX (io), 15 L4/MIWU/T2A (io), 16 L5/MIWU/T2B (io), 17 L6/MIWU/T3A (io), 18 L7/MIWU/T3B (io), 19 B0 (io), 20 B1 (io), 21 B2 (io), 22 B3 (io), 23 B4 (io), 24 B5 (io), 25 B6 (io), 26 B7 (io), 27 DGND (power), 28 AGND (power), 29 AVCC (power), 30 DVCC (power), 31 A2 (io), 32 A3 (io), 33 A4 (io), 34 A5 (io), 35 A6 (io), 36 A7 (io), 37 D0 (out), 38 D1 (out), 39 D2 (out), 40 D3 (out), 41 D4 (out), 42 D5 (out), 43 D6 (out), 44 D7 (out)

## COP8SCR9LVA8
designator U?
8-Bit CMOS Flash Based Microcontroller with 32k Memory, Virtual EEPROM and Brownout; PartNumber: COP8SCR9LVA8; Manufacturer: National Semiconductor; CompType: Analog IC; PackageTopMarking: NS2ZXYTTE#*COP8SCR9LVA8; Published: 4-Dec-2008; DatasheetVersion: Aug-2003; PackageVersion: revK, May-2007; PackageReference: V68A; Publisher: Altium Limited; PackageDescription: Plastic Chip Carrier, J-Bend, .954 x. 954 x .172in, .050in Pitch, 68 Lead; PinCount: 68; DigiKeyPartNumber: COP8SCR9LVA8-ND; Code_JEDEC: MS-018-AE; Code_IPC: PLCC-68; ComponentLink1Description: COP8SCR9 Datasheet; ComponentLink1URL: http://www.national.com/ds.cgi/CO/COP8SCR9.pdf; ComponentLink2Description: COP8SCR9 Web Page; ComponentLink2URL: http://www.national.com/pf/CO/COP8SCR9.html; ComponentLink3Description: V68A package page; ComponentLink3URL: http://www.national.com/packaging/folders/v68a.html
footprint V68A_N (Leaded Chip Carrier, 68-Leads, Body 24x24mm, Pitch 1.27mm, IPC Medium Density)
footprint V68A_L (Leaded Chip Carrier, 68-Leads, Body 24x24mm, Pitch 1.27mm, IPC High Density)
footprint V68A_M (Leaded Chip Carrier, 68-Leads, Body 24x24mm, Pitch 1.27mm, IPC Low Density)
pins: 1 E6 (io), 2 E7 (io), 3 G0/INT (io), 4 G1/WDOUT (io), 5 G2/T1B (io), 6 G3/T1A (io), 7 F0 (io), 8 F1 (io), 9 F2 (io), 10 F3 (io), 11 G4/SO (io), 12 G5/SK (io), 13 G6/SI (in), 14 G7/CKO (in), 15 CKI (in), 16 DGND (power), 17 DVCC (power), 18 C0 (io), 19 C1 (io), 20 C2 (io), 21 C3 (io), 22 L0/MIWU/OSC IN (io), 23 L1/MIWU/CKX/OSC OUT (io), 24 L2/MIWU/TDX (io), 25 L3/MIWU/RDX (io), 26 L4/MIWU/T2A (io), 27 L5/MIWU/T2B (io), 28 L6/MIWU/T3A (io), 29 L7/MIWU/T3B (io), 30 C4 (io), 31 C5 (io), 32 C6 (io), 33 C7 (io), 34 B0 (io), 35 B1 (io), 36 B2 (io), 37 B3 (io), 38 B4 (io), 39 B5 (io), 40 B6 (io), 41 B7 (io), 42 DGND (power), 43 AGND (power), 44 AVCC (power), 45 DVCC (power), 46 A0 (io), 47 A1 (io), 48 A2 (io), 49 A3 (io), 50 A4 (io), 51 A5 (io), 52 A6 (io), 53 A7 (io), 54 E0 (io), 55 E1 (io), 56 E2 (io), 57 E3 (io), 58 D0 (out), 59 D1 (out), 60 D2 (out), 61 D3 (out), 62 D4 (out), 63 D5 (out), 64 D6 (out), 65 D7 (out), 66 ~{RESET} (in), 67 E4 (io), 68 E5 (io)

## COP8SDR9HVA8
designator U?
8-Bit CMOS Flash Based Microcontroller with 32k Memory, Virtual EEPROM and Brownout; PartNumber: COP8SDR9HVA8; Manufacturer: National Semiconductor; CompType: Analog IC; PackageTopMarking: NS2ZXYTTE#*COP8SDR9HVA8; Published: 4-Dec-2008; DatasheetVersion: Aug-2003; PackageVersion: revK, Dec-1993; PackageReference: V44A; Publisher: Altium Limited; PackageDescription: Plastic Chip Carrier, Sq, .050in Pitch, 44 Lead; PinCount: 44; DigiKeyPartNumber: COP8SDR9HVA8-ND; Code_IPC: PLCC-44; ComponentLink1Description: COP8SDR9 Datasheet; ComponentLink1URL: http://www.national.com/ds.cgi/CO/COP8SDR9.pdf; ComponentLink2Description: COP8SDR9 Web Page; ComponentLink2URL: http://www.national.com/pf/CO/COP8SDR9.html; ComponentLink3Description: V44A package page; ComponentLink3URL: http://www.national.com/packaging/folders/v44a.html
footprint V44A_N (Leaded Chip Carrier, 44-Leads, Body 16.6x16.6mm, Pitch 1.27mm, IPC Medium Density)
footprint V44A_L (Leaded Chip Carrier, 44-Leads, Body 16.6x16.6mm, Pitch 1.27mm, IPC High Density)
footprint V44A_M (Leaded Chip Carrier, 44-Leads, Body 16.6x16.6mm, Pitch 1.27mm, IPC Low Density)
pins: 1 ~{RESET} (in), 2 G0/INT (io), 3 G1/WDOUT (io), 4 G2/T1B (io), 5 G3/T1A (io), 6 G4/SO (io), 7 G5/SK (io), 8 G6/SI (in), 9 G7/CKO (in), 10 CKI (in), 11 L0/MIWU/OSC IN (io), 12 L1/MIWU/CKX/OSC OUT (io), 13 L2/MIWU/TDX (io), 14 L3/MIWU/RDX (io), 15 L4/MIWU/T2A (io), 16 L5/MIWU/T2B (io), 17 L6/MIWU/T3A (io), 18 L7/MIWU/T3B (io), 19 B0 (io), 20 B1 (io), 21 B2 (io), 22 B3 (io), 23 B4 (io), 24 B5 (io), 25 B6 (io), 26 B7 (io), 27 DGND (power), 28 AGND (power), 29 AVCC (power), 30 DVCC (power), 31 A2 (io), 32 A3 (io), 33 A4 (io), 34 A5 (io), 35 A6 (io), 36 A7 (io), 37 D0 (out), 38 D1 (out), 39 D2 (out), 40 D3 (out), 41 D4 (out), 42 D5 (out), 43 D6 (out), 44 D7 (out)

## COP8SGE728M8
designator U?
8-Bit CMOS ROM Based and OTP Microcontrollers with 8k to 32k Memory, Two Comparators and USART; PartNumber: COP8SGE728M8; Manufacturer: National Semiconductor; CompType: Analog IC; PackageTopMarking: NSUZXYTT*COP8SGE7*28M8; Published: 4-Dec-2008; DatasheetVersion: Oct-2001; PackageVersion: revB, Nov-1997; PackageReference: M28B; Publisher: Altium Limited; PackageDescription: Molded Package, S.O., .300in Wide, 28 Lead; PinCount: 28; DigiKeyPartNumber: COP8SGE728M8-ND; ComponentLink1Description: COP8SGE7 Datasheet; ComponentLink1URL: http://www.national.com/ds.cgi/CO/COP8SGE7.pdf; ComponentLink2Description: COP8SGE7 Web Page; ComponentLink2URL: http://www.national.com/pf/CO/COP8SGE7.html; ComponentLink3Description: M28B package page; ComponentLink3URL: http://www.national.com/packaging/folders/m28b.html
footprint M28B_N (SOIC, 28-Leads, Body 17.9x7.5mm, Pitch 1.27mm, IPC Medium Density)
footprint M28B_L (SOIC, 28-Leads, Body 17.9x7.5mm, Pitch 1.27mm, IPC High Density)
footprint M28B_M (SOIC, 28-Leads, Body 17.9x7.5mm, Pitch 1.27mm, IPC Low Density)
pins: 1 G4/SO (io), 2 G5/SK (io), 3 G6/SI (in), 4 G7/CKO (in), 5 CKI (in), 6 VCC (power), 7 F0 (io), 8 F1/COMP1IN- (io), 9 F2/COMP1IN+ (io), 10 F3/COMP1OUT (io), 11 L0/MIWU (io), 12 L1/MIWU/CKX (io), 13 L2/MIWU/TDX (io), 14 L3/MIWU/RDX (io), 15 L4/MIWU/T2A (io), 16 L5/MIWU/T2B (io), 17 L6/MIWU/T3A (io), 18 L7/MIWU/T3B (io), 19 D0 (out), 20 D1 (out), 21 D2 (out), 22 D3 (out), 23 GND (power), 24 ~{RESET} (in), 25 G0/INT (io), 26 G1/WDOUT (io), 27 G2/T1B (io), 28 G3/T1A (io)

## COP8SGE728N8
designator U?
8-Bit CMOS ROM Based and OTP Microcontrollers with 8k to 32k Memory, Two Comparators and USART; PartNumber: COP8SGE728N8; Manufacturer: National Semiconductor; CompType: Analog IC; PackageTopMarking: NSUZXYYTTE#*COP8SGE728N8; Published: 4-Dec-2008; DatasheetVersion: Oct-2001; PackageVersion: revB, Aug-1993; PackageReference: NA28E; Publisher: Altium Limited; PackageDescription: Molded Dip, 28 Lead, .600 Centers, Substractor Package; PinCount: 28; DigiKeyPartNumber: COP8SGE728N8-ND; ComponentLink1Description: COP8SGE7 Datasheet; ComponentLink1URL: http://www.national.com/ds.cgi/CO/COP8SGE7.pdf; ComponentLink2Description: COP8SGE7 Web Page; ComponentLink2URL: http://www.national.com/pf/CO/COP8SGE7.html; ComponentLink3Description: NA28E package page; ComponentLink3URL: http://www.national.com/packaging/folders/na28e.html
footprint NA28E (DIP, 28-Leads, Row Spacing 15.24mm, Pitch 2.54mm, Body 36.83x13.72mm)
pins: 1 G4/SO (io), 2 G5/SK (io), 3 G6/SI (in), 4 G7/CKO (in), 5 CKI (in), 6 VCC (power), 7 F0 (io), 8 F1/COMP1IN- (io), 9 F2/COMP1IN+ (io), 10 F3/COMP1OUT (io), 11 L0/MIWU (io), 12 L1/MIWU/CKX (io), 13 L2/MIWU/TDX (io), 14 L3/MIWU/RDX (io), 15 L4/MIWU/T2A (io), 16 L5/MIWU/T2B (io), 17 L6/MIWU/T3A (io), 18 L7/MIWU/T3B (io), 19 D0 (out), 20 D1 (out), 21 D2 (out), 22 D3 (out), 23 GND (power), 24 ~{RESET} (in), 25 G0/INT (io), 26 G1/WDOUT (io), 27 G2/T1B (io), 28 G3/T1A (io)

## COP8SGE744V8
designator U?
8-Bit CMOS ROM Based and OTP Microcontrollers with 8k to 32k Memory, Two Comparators and USART; PartNumber: COP8SGE744V8; Manufacturer: National Semiconductor; CompType: Analog IC; PackageTopMarking: NSUZXYYTTE#*COP8SGE744V8; Published: 4-Dec-2008; DatasheetVersion: Oct-2001; PackageVersion: revK, Dec-1993; PackageReference: V44A; Publisher: Altium Limited; PackageDescription: Plastic Chip Carrier, Sq, .050in Pitch, 44 Lead; PinCount: 44; DigiKeyPartNumber: COP8SGE744V8-ND; Code_IPC: PLCC-44; ComponentLink1Description: COP8SGE7 Datasheet; ComponentLink1URL: http://www.national.com/ds.cgi/CO/COP8SGE7.pdf; ComponentLink2Description: COP8SGE7 Web Page; ComponentLink2URL: http://www.national.com/pf/CO/COP8SGE7.html; ComponentLink3Description: V44A package page; ComponentLink3URL: http://www.national.com/packaging/folders/v44a.html
footprint V44A_N (Leaded Chip Carrier, 44-Leads, Body 16.6x16.6mm, Pitch 1.27mm, IPC Medium Density)
footprint V44A_L (Leaded Chip Carrier, 44-Leads, Body 16.6x16.6mm, Pitch 1.27mm, IPC High Density)
footprint V44A_M (Leaded Chip Carrier, 44-Leads, Body 16.6x16.6mm, Pitch 1.27mm, IPC Low Density)
pins: 1 C2 (io), 2 C3 (io), 3 G4/SO (io), 4 G5/SK (io), 5 G6/SI (in), 6 G7/CKO (in), 7 CKI (in), 8 VCC (power), 9 F0 (io), 10 F1/COMP1IN- (io), 11 F2/COMP1IN+ (io), 12 F3/COMP1OUT (io), 13 F4/COMP2IN- (io), 14 F5/COMP2IN+ (io), 15 F6/COMP2OUT (io), 16 F7 (io), 17 L0/MIWU (io), 18 L1/MIWU/CKX (io), 19 L2/MIWU/TDX (io), 20 L3/MIWU/RDX (io), 21 C4 (io), 22 C5 (io), 23 C6 (io), 24 C7 (io), 25 L4/MIWU/T2A (io), 26 L5/MIWU/T2B (io), 27 L6/MIWU/T3A (io), 28 L7/MIWU/T3B (io), 29 D0 (out), 30 D1 (out), 31 D2 (out), 32 D3 (out), 33 D4 (out), 34 D5 (out), 35 D6 (out), 36 D7 (out), 37 GND (power), 38 ~{RESET} (in), 39 G0/INT (io), 40 G1/WDOUT (io), 41 G2/T1B (io), 42 G3/T1A (io), 43 C0 (io), 44 C1 (io)

## COP8SGR728M7
designator U?
8-Bit CMOS ROM Based and OTP Microcontrollers with 8k to 32k Memory, Two Comparators and USART; PartNumber: COP8SGR728M7; Manufacturer: National Semiconductor; CompType: Analog IC; PackageTopMarking: NSUZXYTT*COP8SGR728M7; Published: 4-Dec-2008; DatasheetVersion: Oct-2001; PackageVersion: revB, Nov-1997; PackageReference: M28B; Publisher: Altium Limited; PackageDescription: Molded Package, S.O., .300in Wide, 28 Lead; PinCount: 28; DigiKeyPartNumber: COP8SGR728M7-ND; ComponentLink1Description: COP8SGR7 Datasheet; ComponentLink1URL: http://www.national.com/ds.cgi/CO/COP8SGR7.pdf; ComponentLink2Description: COP8SGR7 Web Page; ComponentLink2URL: http://www.national.com/pf/CO/COP8SGR7.html; ComponentLink3Description: M28B package page; ComponentLink3URL: http://www.national.com/packaging/folders/m28b.html
footprint M28B_N (SOIC, 28-Leads, Body 17.9x7.5mm, Pitch 1.27mm, IPC Medium Density)
footprint M28B_L (SOIC, 28-Leads, Body 17.9x7.5mm, Pitch 1.27mm, IPC High Density)
footprint M28B_M (SOIC, 28-Leads, Body 17.9x7.5mm, Pitch 1.27mm, IPC Low Density)
pins: 1 G4/SO (io), 2 G5/SK (io), 3 G6/SI (in), 4 G7/CKO (in), 5 CKI (in), 6 VCC (power), 7 F0 (io), 8 F1/COMP1IN- (io), 9 F2/COMP1IN+ (io), 10 F3/COMP1OUT (io), 11 L0/MIWU (io), 12 L1/MIWU/CKX (io), 13 L2/MIWU/TDX (io), 14 L3/MIWU/RDX (io), 15 L4/MIWU/T2A (io), 16 L5/MIWU/T2B (io), 17 L6/MIWU/T3A (io), 18 L7/MIWU/T3B (io), 19 D0 (out), 20 D1 (out), 21 D2 (out), 22 D3 (out), 23 GND (power), 24 ~{RESET} (in), 25 G0/INT (io), 26 G1/WDOUT (io), 27 G2/T1B (io), 28 G3/T1A (io)

## COP8SGR728M8
designator U?
8-Bit CMOS ROM Based and OTP Microcontrollers with 8k to 32k Memory, Two Comparators and USART; PartNumber: COP8SGR728M8; Manufacturer: National Semiconductor; CompType: Analog IC; PackageTopMarking: NSUZXYTT*COP8SGR728M8; Published: 4-Dec-2008; DatasheetVersion: Oct-2001; PackageVersion: revB, Nov-1997; PackageReference: M28B; Publisher: Altium Limited; PackageDescription: Molded Package, S.O., .300in Wide, 28 Lead; PinCount: 28; DigiKeyPartNumber: COP8SGR728M8-ND; ComponentLink1Description: COP8SGR7 Datasheet; ComponentLink1URL: http://www.national.com/ds.cgi/CO/COP8SGR7.pdf; ComponentLink2Description: COP8SGR7 Web Page; ComponentLink2URL: http://www.national.com/pf/CO/COP8SGR7.html; ComponentLink3Description: M28B package page; ComponentLink3URL: http://www.national.com/packaging/folders/m28b.html
footprint M28B_N (SOIC, 28-Leads, Body 17.9x7.5mm, Pitch 1.27mm, IPC Medium Density)
footprint M28B_L (SOIC, 28-Leads, Body 17.9x7.5mm, Pitch 1.27mm, IPC High Density)
footprint M28B_M (SOIC, 28-Leads, Body 17.9x7.5mm, Pitch 1.27mm, IPC Low Density)
pins: 1 G4/SO (io), 2 G5/SK (io), 3 G6/SI (in), 4 G7/CKO (in), 5 CKI (in), 6 VCC (power), 7 F0 (io), 8 F1/COMP1IN- (io), 9 F2/COMP1IN+ (io), 10 F3/COMP1OUT (io), 11 L0/MIWU (io), 12 L1/MIWU/CKX (io), 13 L2/MIWU/TDX (io), 14 L3/MIWU/RDX (io), 15 L4/MIWU/T2A (io), 16 L5/MIWU/T2B (io), 17 L6/MIWU/T3A (io), 18 L7/MIWU/T3B (io), 19 D0 (out), 20 D1 (out), 21 D2 (out), 22 D3 (out), 23 GND (power), 24 ~{RESET} (in), 25 G0/INT (io), 26 G1/WDOUT (io), 27 G2/T1B (io), 28 G3/T1A (io)

## COP8SGR728N8
designator U?
8-Bit CMOS ROM Based and OTP Microcontrollers with 8k to 32k Memory, Two Comparators and USART; PartNumber: COP8SGR728N8; Manufacturer: National Semiconductor; CompType: Analog IC; PackageTopMarking: NSUZXYYTTE#*COP8SGR728N8; Published: 4-Dec-2008; DatasheetVersion: Oct-2001; PackageVersion: revB, Aug-1993; PackageReference: NA28E; Publisher: Altium Limited; PackageDescription: Molded Dip, 28 Lead, .600 Centers, Substractor Package; PinCount: 28; DigiKeyPartNumber: COP8SGR728N8-ND; ComponentLink1Description: COP8SGR7 Datasheet; ComponentLink1URL: http://www.national.com/ds.cgi/CO/COP8SGR7.pdf; ComponentLink2Description: COP8SGR7 Web Page; ComponentLink2URL: http://www.national.com/pf/CO/COP8SGR7.html; ComponentLink3Description: NA28E package page; ComponentLink3URL: http://www.national.com/packaging/folders/na28e.html
footprint NA28E (DIP, 28-Leads, Row Spacing 15.24mm, Pitch 2.54mm, Body 36.83x13.72mm)
pins: 1 G4/SO (io), 2 G5/SK (io), 3 G6/SI (in), 4 G7/CKO (in), 5 CKI (in), 6 VCC (power), 7 F0 (io), 8 F1/COMP1IN- (io), 9 F2/COMP1IN+ (io), 10 F3/COMP1OUT (io), 11 L0/MIWU (io), 12 L1/MIWU/CKX (io), 13 L2/MIWU/TDX (io), 14 L3/MIWU/RDX (io), 15 L4/MIWU/T2A (io), 16 L5/MIWU/T2B (io), 17 L6/MIWU/T3A (io), 18 L7/MIWU/T3B (io), 19 D0 (out), 20 D1 (out), 21 D2 (out), 22 D3 (out), 23 GND (power), 24 ~{RESET} (in), 25 G0/INT (io), 26 G1/WDOUT (io), 27 G2/T1B (io), 28 G3/T1A (io)

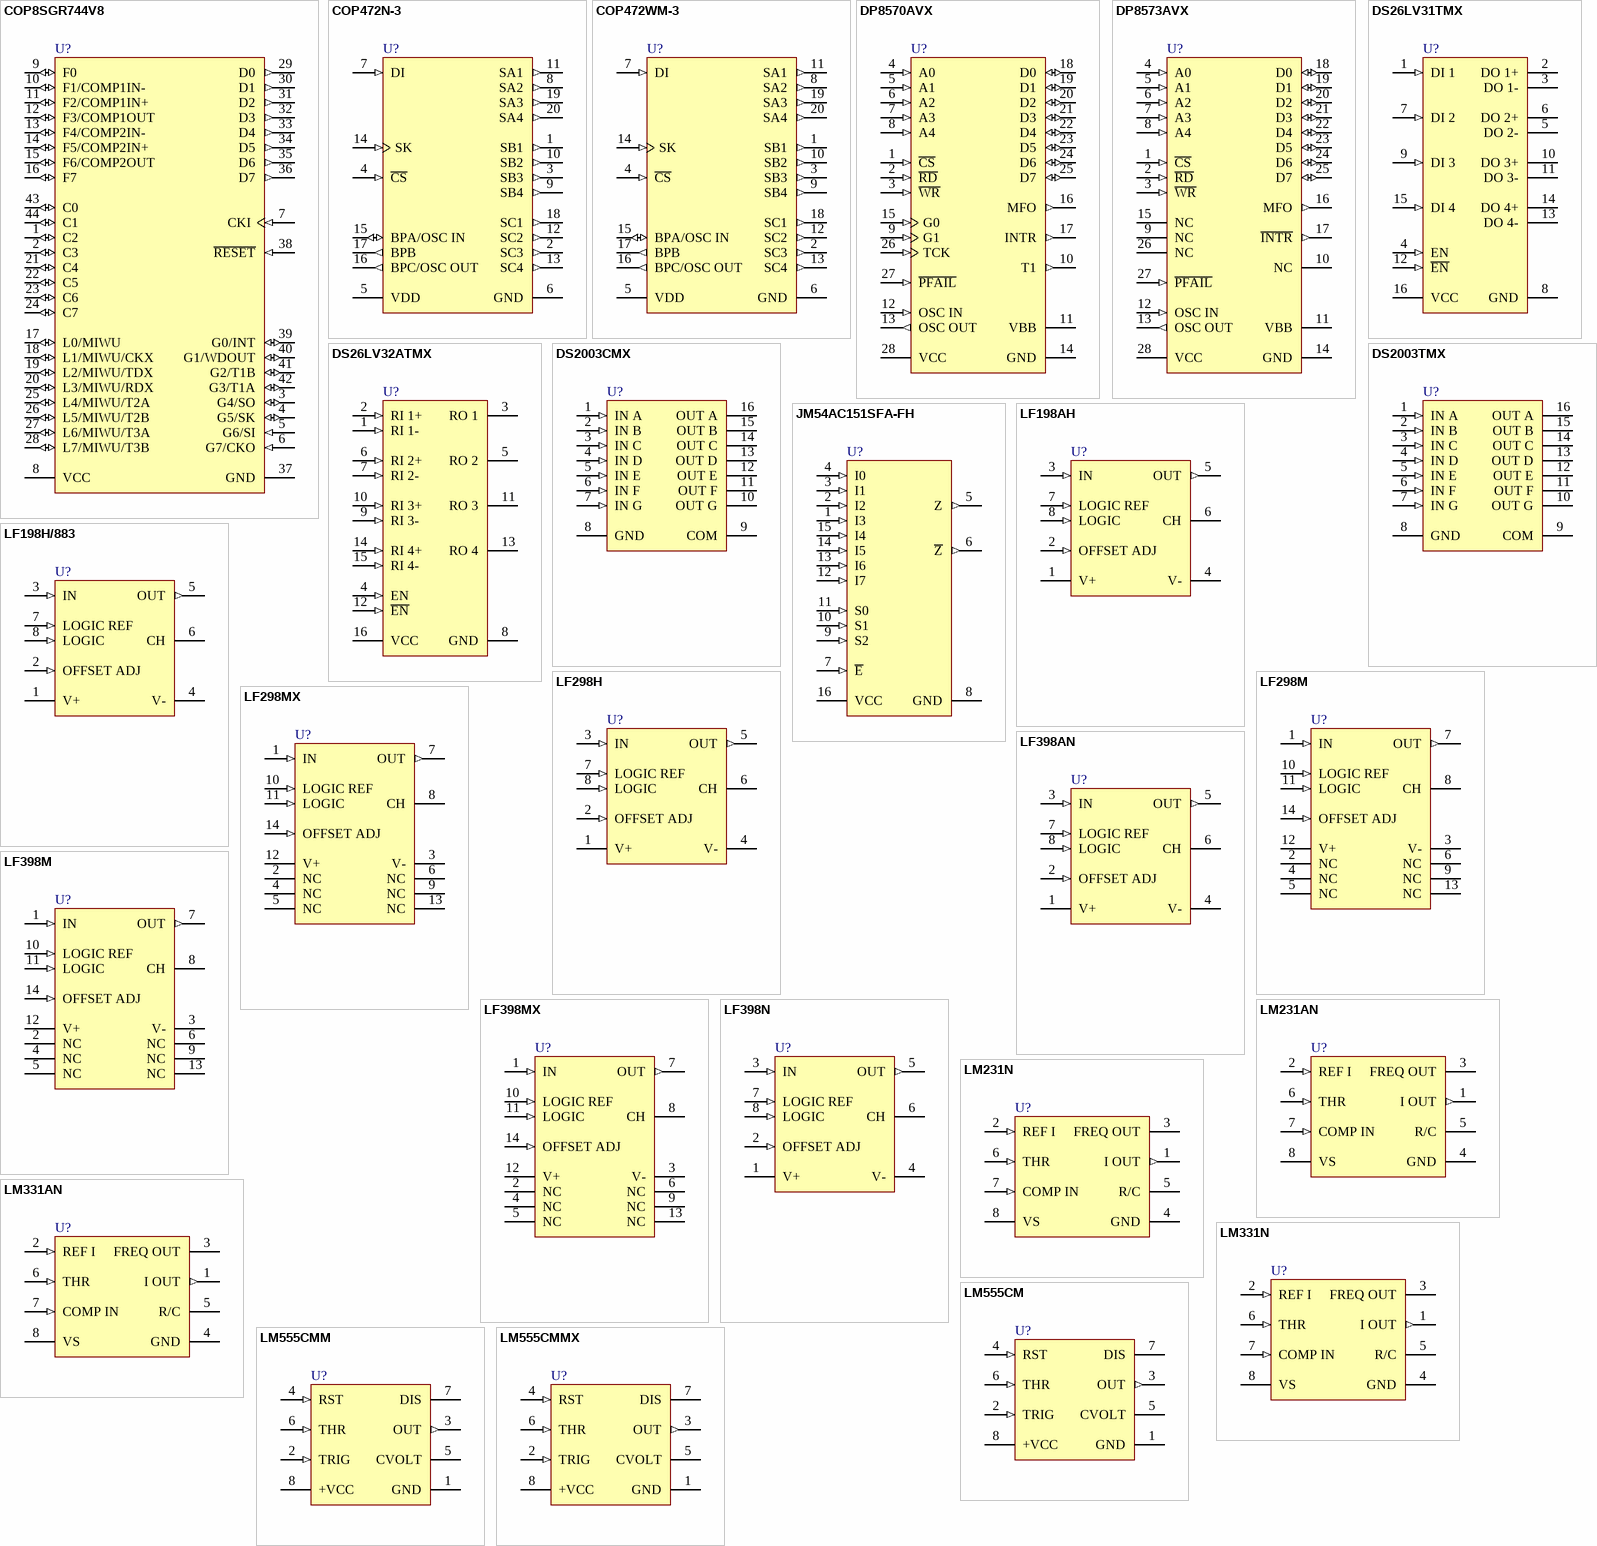
[diagram p2: symbols COP8SGR744V8 to LM555CMMX]

## COP8SGR744V8
designator U?
8-Bit CMOS ROM Based and OTP Microcontrollers with 8k to 32k Memory, Two Comparators and USART; PartNumber: COP8SGR744V8; Manufacturer: National Semiconductor; CompType: Analog IC; PackageTopMarking: NSUZXYYTTE#*COP8SGR744V8; Published: 4-Dec-2008; DatasheetVersion: Oct-2001; PackageVersion: revK, Dec-1993; PackageReference: V44A; Publisher: Altium Limited; PackageDescription: Plastic Chip Carrier, Sq, .050in Pitch, 44 Lead; PinCount: 44; DigiKeyPartNumber: COP8SGR744V8-ND; Code_IPC: PLCC-44; ComponentLink1Description: COP8SGR7 Datasheet; ComponentLink1URL: http://www.national.com/ds.cgi/CO/COP8SGR7.pdf; ComponentLink2Description: COP8SGR7 Web Page; ComponentLink2URL: http://www.national.com/pf/CO/COP8SGR7.html; ComponentLink3Description: V44A package page; ComponentLink3URL: http://www.national.com/packaging/folders/v44a.html
footprint V44A_N (Leaded Chip Carrier, 44-Leads, Body 16.6x16.6mm, Pitch 1.27mm, IPC Medium Density)
footprint V44A_L (Leaded Chip Carrier, 44-Leads, Body 16.6x16.6mm, Pitch 1.27mm, IPC High Density)
footprint V44A_M (Leaded Chip Carrier, 44-Leads, Body 16.6x16.6mm, Pitch 1.27mm, IPC Low Density)
pins: 1 C2 (io), 2 C3 (io), 3 G4/SO (io), 4 G5/SK (io), 5 G6/SI (in), 6 G7/CKO (in), 7 CKI (in), 8 VCC (power), 9 F0 (io), 10 F1/COMP1IN- (io), 11 F2/COMP1IN+ (io), 12 F3/COMP1OUT (io), 13 F4/COMP2IN- (io), 14 F5/COMP2IN+ (io), 15 F6/COMP2OUT (io), 16 F7 (io), 17 L0/MIWU (io), 18 L1/MIWU/CKX (io), 19 L2/MIWU/TDX (io), 20 L3/MIWU/RDX (io), 21 C4 (io), 22 C5 (io), 23 C6 (io), 24 C7 (io), 25 L4/MIWU/T2A (io), 26 L5/MIWU/T2B (io), 27 L6/MIWU/T3A (io), 28 L7/MIWU/T3B (io), 29 D0 (out), 30 D1 (out), 31 D2 (out), 32 D3 (out), 33 D4 (out), 34 D5 (out), 35 D6 (out), 36 D7 (out), 37 GND (power), 38 ~{RESET} (in), 39 G0/INT (io), 40 G1/WDOUT (io), 41 G2/T1B (io), 42 G3/T1A (io), 43 C0 (io), 44 C1 (io)

## COP472N-3
designator U?
Liquid Crystal Display Controller; PartNumber: COP472N-3; Manufacturer: National Semiconductor; CompType: Analog IC; PackageTopMarking: NSUZXYYTTE#*COP472N-3; Published: 4-Dec-2008; DatasheetVersion: Jul-1995; PackageVersion: revG, Nov-1984; PackageReference: N20A; Publisher: Altium Limited; PackageDescription: Molded Dip (N) 20 Lead; PinCount: 20; DigiKeyPartNumber: COP472N-3-ND; Code_JEDEC: MS-001-AD; ComponentLink1Description: COP472-3 Datasheet; ComponentLink1URL: http://www.national.com/ds.cgi/CO/COP472-3.pdf; ComponentLink2Description: COP472-3 Web Page; ComponentLink2URL: http://www.national.com/pf/CO/COP472-3.html; ComponentLink3Description: N20A package page; ComponentLink3URL: http://www.national.com/packaging/folders/n20a.html
footprint N20A (DIP, 20-Leads, Row Spacing 7.62mm, Pitch 2.54mm, Body 26.07x6.6mm)
pins: 1 SB1 (out), 2 SC3 (out), 3 SB3 (out), 4 ~{CS} (in), 5 VDD (power), 6 GND (power), 7 DI (in), 8 SA2 (out), 9 SB4 (out), 10 SB2 (out), 11 SA1 (out), 12 SC2 (out), 13 SC4 (out), 14 SK (in), 15 BPA/OSC IN (io), 16 BPC/OSC OUT (out), 17 BPB (out), 18 SC1 (out), 19 SA3 (out), 20 SA4 (out)

## COP472WM-3
designator U?
Liquid Crystal Display Controller; PartNumber: COP472WM-3; Manufacturer: National Semiconductor; CompType: Analog IC; PackageTopMarking: NSUZXYTT*COP472WM-3; Published: 4-Dec-2008; DatasheetVersion: Jul-1995; PackageVersion: revG, Jan-1996; PackageReference: M20B; Publisher: Altium Limited; PackageDescription: Molded Package, S0, .300in Wide, 20 Lead; PinCount: 20; DigiKeyPartNumber: COP472WM-3-ND; Code_JEDEC: MS-013-AC; Code_IPC: SOIC127P1030-20; ComponentLink1Description: COP472-3 Datasheet; ComponentLink1URL: http://www.national.com/ds.cgi/CO/COP472-3.pdf; ComponentLink2Description: COP472-3 Web Page; ComponentLink2URL: http://www.national.com/pf/CO/COP472-3.html; ComponentLink3Description: M20B package page; ComponentLink3URL: http://www.national.com/packaging/folders/m20b.html
footprint M20B_N (SOIC, 20-Leads, Body 12.8x7.5mm, Pitch 1.27mm, IPC Medium Density)
footprint M20B_L (SOIC, 20-Leads, Body 12.8x7.5mm, Pitch 1.27mm, IPC High Density)
footprint M20B_M (SOIC, 20-Leads, Body 12.8x7.5mm, Pitch 1.27mm, IPC Low Density)
pins: 1 SB1 (out), 2 SC3 (out), 3 SB3 (out), 4 ~{CS} (in), 5 VDD (power), 6 GND (power), 7 DI (in), 8 SA2 (out), 9 SB4 (out), 10 SB2 (out), 11 SA1 (out), 12 SC2 (out), 13 SC4 (out), 14 SK (in), 15 BPA/OSC IN (io), 16 BPC/OSC OUT (out), 17 BPB (out), 18 SC1 (out), 19 SA3 (out), 20 SA4 (out)

## DP8570AVX
designator U?
Timer Clock Peripheral (TCP); PartNumber: DP8570AVX; Manufacturer: National Semiconductor; CompType: Analog IC; PackageTopMarking: NSUZXYYTT*DP8570AV; Published: 4-Dec-2008; DatasheetVersion: May-1993; PackageVersion: revK, Dec-1993; PackageReference: V28A; Publisher: Altium Limited; PackageDescription: Plastic Chip Carrier, Sq., .050in Pitch, 28 Lead; PinCount: 28; DigiKeyPartNumber: DP8570AVX-ND; Code_IPC: PLCC-28; ComponentLink1Description: DP8570A Datasheet; ComponentLink1URL: http://www.national.com/ds.cgi/DP/DP8570A.pdf; ComponentLink2Description: DP8570A Web Page; ComponentLink2URL: http://www.national.com/pf/DP/DP8570A.html; ComponentLink3Description: V28A package page; ComponentLink3URL: http://www.national.com/packaging/folders/v28a.html
footprint V28A_N (Leaded Chip Carrier, 28-Leads, Body 11.5x11.5mm, Pitch 1.27mm, IPC Medium Density)
footprint V28A_L (Leaded Chip Carrier, 28-Leads, Body 11.5x11.5mm, Pitch 1.27mm, IPC High Density)
footprint V28A_M (Leaded Chip Carrier, 28-Leads, Body 11.5x11.5mm, Pitch 1.27mm, IPC Low Density)
pins: 1 ~{CS} (in), 2 ~{RD} (in), 3 ~{WR} (in), 4 A0 (in), 5 A1 (in), 6 A2 (in), 7 A3 (in), 8 A4 (in), 9 G1 (in), 10 T1 (out), 11 VBB (power), 12 OSC IN (in), 13 OSC OUT (out), 14 GND (power), 15 G0 (in), 16 MFO (out), 17 INTR (out), 18 D0 (io), 19 D1 (io), 20 D2 (io), 21 D3 (io), 22 D4 (io), 23 D5 (io), 24 D6 (io), 25 D7 (io), 26 TCK (in), 27 ~{PFAIL} (in), 28 VCC (power)

## DP8573AVX
designator U?
Real Time Clock (RTC); PartNumber: DP8573AVX; Manufacturer: National Semiconductor; CompType: Analog IC; PackageTopMarking: NSUZXYYTT*DP8573AV; Published: 4-Dec-2008; DatasheetVersion: May-1993; PackageVersion: revK, Dec-1993; PackageReference: V28A; Publisher: Altium Limited; PackageDescription: Plastic Chip Carrier, Sq., .050in Pitch, 28 Lead; PinCount: 28; DigiKeyPartNumber: DP8573AVX-ND; Code_IPC: PLCC-28; ComponentLink1Description: DP8573A Datasheet; ComponentLink1URL: http://www.national.com/ds.cgi/DP/DP8573A.pdf; ComponentLink2Description: DP8573A Web Page; ComponentLink2URL: http://www.national.com/pf/DP/DP8573A.html; ComponentLink3Description: V28A package page; ComponentLink3URL: http://www.national.com/packaging/folders/v28a.html
footprint V28A_N (Leaded Chip Carrier, 28-Leads, Body 11.5x11.5mm, Pitch 1.27mm, IPC Medium Density)
footprint V28A_L (Leaded Chip Carrier, 28-Leads, Body 11.5x11.5mm, Pitch 1.27mm, IPC High Density)
footprint V28A_M (Leaded Chip Carrier, 28-Leads, Body 11.5x11.5mm, Pitch 1.27mm, IPC Low Density)
pins: 1 ~{CS} (in), 2 ~{RD} (in), 3 ~{WR} (in), 4 A0 (in), 5 A1 (in), 6 A2 (in), 7 A3 (in), 8 A4 (in), 9 NC, 10 NC, 11 VBB (power), 12 OSC IN (in), 13 OSC OUT (out), 14 GND (power), 15 NC, 16 MFO (out), 17 ~{INTR} (out), 18 D0 (io), 19 D1 (io), 20 D2 (io), 21 D3 (io), 22 D4 (io), 23 D5 (io), 24 D6 (io), 25 D7 (io), 26 NC, 27 ~{PFAIL} (in), 28 VCC (power)

## DS26LV31TMX
designator U?
3V Enhanced CMOS Quad Differential Line Driver; PartNumber: DS26LV31TMX; Manufacturer: National Semiconductor; CompType: Analog IC; PackageTopMarking: NSUZXYTT*DS26LV31*TM; Published: 4-Dec-2008; DatasheetVersion: Mar-1999; PackageVersion: revJ, Aug-1995; PackageReference: M16A; Publisher: Altium Limited; PackageDescription: Molded Package, SO, .150in Wide, 16 Lead; PinCount: 16; DigiKeyPartNumber: DS26LV31TMX-ND; Code_JEDEC: MS-012-AC; Code_IPC: SOIC127P600-16; ComponentLink1Description: DS26LV31T Datasheet; ComponentLink1URL: http://www.national.com/ds.cgi/DS/DS26LV31T.pdf; ComponentLink2Description: DS26LV31T Web Page; ComponentLink2URL: http://www.national.com/pf/DS/DS26LV31T.html; ComponentLink3Description: M16A package page; ComponentLink3URL: http://www.national.com/packaging/folders/m16a.html
footprint M16A_N (SOIC, 16-Leads, Body 9.9x3.9mm, Pitch 1.27mm, IPC Medium Density)
footprint M16A_L (SOIC, 16-Leads, Body 9.9x3.9mm, Pitch 1.27mm, IPC High Density)
footprint M16A_M (SOIC, 16-Leads, Body 9.9x3.9mm, Pitch 1.27mm, IPC Low Density)
pins: 1 DI 1 (in), 2 DO 1+ (hiz), 3 DO 1- (hiz), 4 EN (in), 5 DO 2- (hiz), 6 DO 2+ (hiz), 7 DI 2 (in), 8 GND (power), 9 DI 3 (in), 10 DO 3+ (hiz), 11 DO 3- (hiz), 12 ~{EN} (in), 13 DO 4- (hiz), 14 DO 4+ (hiz), 15 DI 4 (in), 16 VCC (power)